# EAGLE library part PARTS_PJ-342 (library talkie)
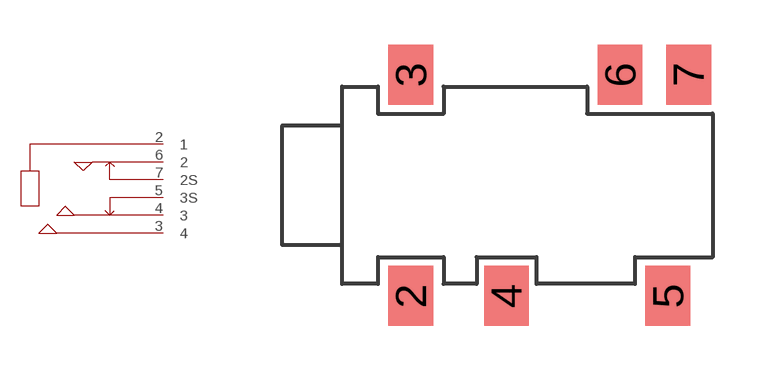
[diagram p3: symbol with the pads of PARTS_PJ-342-6P; footprint PARTS_PJ-342-6P]

Designator prefix -

## PARTS_PJ-342  [PARTS_PJ-342-6P]
2  1
3  4
4  3
5  3S
6  2
7  2S

## Footprint PARTS_PJ-342-6P (pad centres in mm)
smd 1.5 x 2: 2 2.3,-3.7; 3 2.3,3.7; 4 5.5,-3.7; 5 10.9,-3.7; 6 9.3,3.7; 7 11.6,3.7